# EAGLE library part 4050432 (library ampex)
MM1200 - Reg/Bias Osc Card
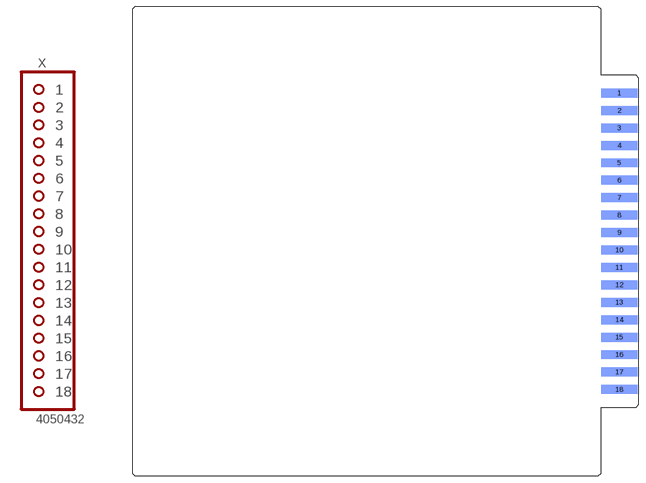
[diagram p8: symbol with the pads of 4050432; footprint 4050432]

Designator prefix X

## 4050432  [4050432]
1  1  pas
2  2  pas
3  3  pas
4  4  pas
5  5  pas
6  6  pas
7  7  pas
8  8  pas
9  9  pas
10  10  pas
11  11  pas
12  12  pas
13  13  pas
14  14  pas
15  15  pas
16  16  pas
17  17  pas
18  18  pas

## Footprint 4050432 (pad centres in mm)
REG/BIAS OSC
smd 8.128 x 2.032 bottom: 1 -4.458,33.68; 2 -4.458,29.718; 3 -4.458,25.756; 4 -4.458,21.793; 5 -4.458,17.831; 6 -4.458,13.868; 7 -4.458,9.906; 8 -4.458,5.944; 9 -4.458,1.981; 10 -4.458,-1.981; 11 -4.458,-5.944; 12 -4.458,-9.906; 13 -4.458,-13.868; 14 -4.458,-17.831; 15 -4.458,-21.793; 16 -4.458,-25.756; 17 -4.458,-29.718; 18 -4.458,-33.68